# Altium integrated library Linear Technology PMIC-Switching Reg LTC1174-LTC3901.IntLib: 2647 symbols (part 93 of 310)
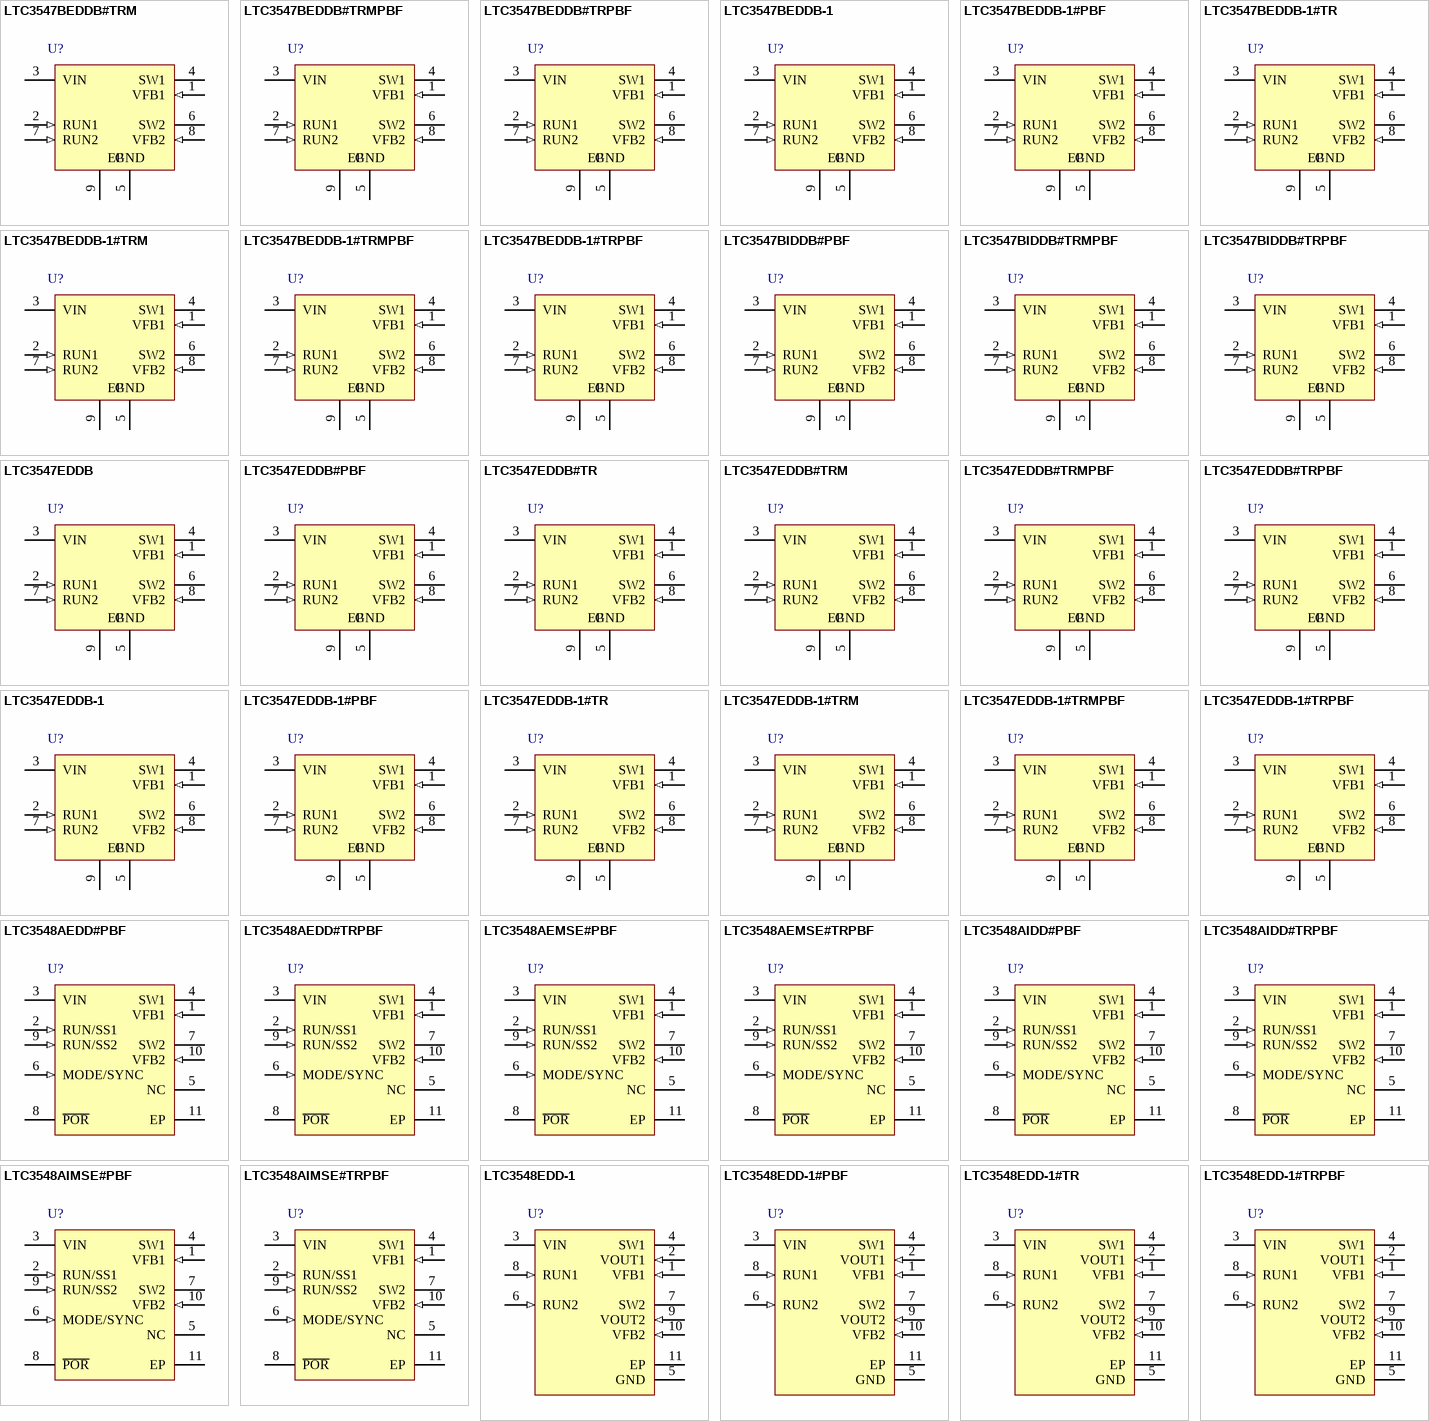
[diagram p168: symbols LTC3547BEDDB#TRM to LTC3548EDD-1#TRPBF]

## LTC3548AEMSE#PBF
designator U?
Dual Synchronous 400 mA / 800 mA, 2.25 MHz Step-Down DC/DC Regulator, 10-pin SOP (MSE-10-EDP), -40 to 125 degC, Pb-Free; Manufacturer: Linear Technology; PartNumber: LTC3548AEMSE#PBF; Number of Outputs: 2; PackageReference: MSE-10; PackageDescription: 10-Pin Plastic MSOP, Exposed Die Pad, Body 3 x 3 mm, Pitch 0.5 mm; Supplier 1: Digi-Key; Supplier Part Number 1: LTC3548AEMSE#PBF-ND; RoHS: TRUE
footprint LT-MSE-10-EDP-2060x1830TP_N (SOP, 10-Leads, Body 3.1x3.1mm, Pitch 0.5mm, Thermal Pad 2.17x1.94mm, IPC Medium Density)
footprint LT-MSE-10-EDP-2060x1830TP_L (SOP, 10-Leads, Body 3.1x3.1mm, Pitch 0.5mm, Thermal Pad 2.17x1.94mm, IPC High Density)
footprint LT-MSE-10-EDP-2060x1830TP_M (SOP, 10-Leads, Body 3.1x3.1mm, Pitch 0.5mm, Thermal Pad 2.17x1.94mm, IPC Low Density)
pins: 1 VFB1 (in) "Output Feedback. Receives the feedback voltage from the external resistive divider across the output. Nominal voltage for this pin is 0.6V.", 2 RUN/SS1 (in) "Regulator 1 Enable and Soft-Start Input. Forcing this pin to VIN enables regulator 1, while forcing it to GND causes regulator 1 to shut down. Connect external RC network with desired time-constant to enable soft-start (See Datasheet)", 3 VIN (power) "Main Power Supply. Must be closely decoupled to GND.", 4 SW1 (power) "Regulator 1 Switch Node Connection to the Inductor. This pin swings from VIN to GND", 5 NC "No Connect. This pin is not connected internally. Connect to ground on PCB for shielding purposes", 6 MODE/SYNC (in) "Combination Mode Selection and Oscillator Synchronization. This pin controls the operation of the device. When tied to VIN or GND, Burst Mode operation or pulse-skipping mode is selected, respectively. Do not float this pin. (See Datasheet)", 7 SW2 (power) "Regulator 2 Switch Node Connection to the Inductor. This pin swings from VIN to GND.", 8 ~{POR} (oc) "Power-On Reset. This common-drain logic output is pulled to GND when the output voltage is not within +/-8.5% of regulation and goes high after 2^16 clock cycles when both channels are within regulation.", 9 RUN/SS2 (in) "Regulator 2 Enable and Soft-Start Input. Forcing this pin to VIN enables regulator 2, while forcing it to GND causes regulator 2 to shut down. Connect external RC network with desired time-constant to enable soft-start (See Datasheet)", 10 VFB2 (in) "Output Feedback. Receives the feedback voltage from the external resistive divider across the output. Nominal voltage for this pin is 0.6V.", 11 EP (power) "Power Ground. Connect to the (-) terminal of COUT, and (-) terminal of CIN. Must be soldered to electrical ground on PCB."

## LTC3548AEMSE#TRPBF
designator U?
Dual Synchronous 400 mA / 800 mA, 2.25 MHz Step-Down DC/DC Regulator, 10-pin SOP (MSE-10-EDP), -40 to 125 degC, Pb-Free, Tape and Reel; Manufacturer: Linear Technology; PartNumber: LTC3548AEMSE#TRPBF; Number of Outputs: 2; PackageReference: MSE-10; PackageDescription: 10-Pin Plastic MSOP, Exposed Die Pad, Body 3 x 3 mm, Pitch 0.5 mm; Supplier 1: Digi-Key; Supplier Part Number 1: LTC3548AEMSE#TRPBF-ND; RoHS: TRUE
footprint LT-MSE-10-EDP-2060x1830TP_N (SOP, 10-Leads, Body 3.1x3.1mm, Pitch 0.5mm, Thermal Pad 2.17x1.94mm, IPC Medium Density)
footprint LT-MSE-10-EDP-2060x1830TP_L (SOP, 10-Leads, Body 3.1x3.1mm, Pitch 0.5mm, Thermal Pad 2.17x1.94mm, IPC High Density)
footprint LT-MSE-10-EDP-2060x1830TP_M (SOP, 10-Leads, Body 3.1x3.1mm, Pitch 0.5mm, Thermal Pad 2.17x1.94mm, IPC Low Density)
pins: 1 VFB1 (in) "Output Feedback. Receives the feedback voltage from the external resistive divider across the output. Nominal voltage for this pin is 0.6V.", 2 RUN/SS1 (in) "Regulator 1 Enable and Soft-Start Input. Forcing this pin to VIN enables regulator 1, while forcing it to GND causes regulator 1 to shut down. Connect external RC network with desired time-constant to enable soft-start (See Datasheet)", 3 VIN (power) "Main Power Supply. Must be closely decoupled to GND.", 4 SW1 (power) "Regulator 1 Switch Node Connection to the Inductor. This pin swings from VIN to GND", 5 NC "No Connect. This pin is not connected internally. Connect to ground on PCB for shielding purposes", 6 MODE/SYNC (in) "Combination Mode Selection and Oscillator Synchronization. This pin controls the operation of the device. When tied to VIN or GND, Burst Mode operation or pulse-skipping mode is selected, respectively. Do not float this pin. (See Datasheet)", 7 SW2 (power) "Regulator 2 Switch Node Connection to the Inductor. This pin swings from VIN to GND.", 8 ~{POR} (oc) "Power-On Reset. This common-drain logic output is pulled to GND when the output voltage is not within +/-8.5% of regulation and goes high after 2^16 clock cycles when both channels are within regulation.", 9 RUN/SS2 (in) "Regulator 2 Enable and Soft-Start Input. Forcing this pin to VIN enables regulator 2, while forcing it to GND causes regulator 2 to shut down. Connect external RC network with desired time-constant to enable soft-start (See Datasheet)", 10 VFB2 (in) "Output Feedback. Receives the feedback voltage from the external resistive divider across the output. Nominal voltage for this pin is 0.6V.", 11 EP (power) "Power Ground. Connect to the (-) terminal of COUT, and (-) terminal of CIN. Must be soldered to electrical ground on PCB."

## LTC3548AIDD#PBF
designator U?
Dual Synchronous 400 mA / 800 mA, 2.25 MHz Step-Down DC/DC Regulator, 10-pin SON (DD-10), -40 to 125 degC, Pb-Free; Manufacturer: Linear Technology; PartNumber: LTC3548AIDD#PBF; Number of Outputs: 2; PackageReference: DD-10; PackageDescription: 10-Pin Plastic DFN, Body 3 x 3 mm, Pitch 0.5 mm; Supplier 1: Digi-Key; Supplier Part Number 1: LTC3548AIDD#PBF-ND; RoHS: TRUE; Code_JEDEC: MO-229
footprint LT-DD-10_V (SON, 10-Leads, Body 3x3mm, Pitch 0.5mm, Thermal Pad 2.38x1.65mm)
pins: 1 VFB1 (in) "Output Feedback. Receives the feedback voltage from the external resistive divider across the output. Nominal voltage for this pin is 0.6V.", 2 RUN/SS1 (in) "Regulator 1 Enable and Soft-Start Input. Forcing this pin to VIN enables regulator 1, while forcing it to GND causes regulator 1 to shut down. Connect external RC network with desired time-constant to enable soft-start (See Datasheet)", 3 VIN (power) "Main Power Supply. Must be closely decoupled to GND.", 4 SW1 (power) "Regulator 1 Switch Node Connection to the Inductor. This pin swings from VIN to GND", 5 NC "No Connect. This pin is not connected internally. Connect to ground on PCB for shielding purposes", 6 MODE/SYNC (in) "Combination Mode Selection and Oscillator Synchronization. This pin controls the operation of the device. When tied to VIN or GND, Burst Mode operation or pulse-skipping mode is selected, respectively. Do not float this pin. (See Datasheet)", 7 SW2 (power) "Regulator 2 Switch Node Connection to the Inductor. This pin swings from VIN to GND.", 8 ~{POR} (oc) "Power-On Reset. This common-drain logic output is pulled to GND when the output voltage is not within +/-8.5% of regulation and goes high after 2^16 clock cycles when both channels are within regulation.", 9 RUN/SS2 (in) "Regulator 2 Enable and Soft-Start Input. Forcing this pin to VIN enables regulator 2, while forcing it to GND causes regulator 2 to shut down. Connect external RC network with desired time-constant to enable soft-start (See Datasheet)", 10 VFB2 (in) "Output Feedback. Receives the feedback voltage from the external resistive divider across the output. Nominal voltage for this pin is 0.6V.", 11 EP (power) "Power Ground. Connect to the (-) terminal of COUT, and (-) terminal of CIN. Must be soldered to electrical ground on PCB."

## LTC3548AIDD#TRPBF
designator U?
Dual Synchronous 400 mA / 800 mA, 2.25 MHz Step-Down DC/DC Regulator, 10-pin SON (DD-10), -40 to 125 degC, Pb-Free, Tape and Reel; Manufacturer: Linear Technology; PartNumber: LTC3548AIDD#TRPBF; Number of Outputs: 2; PackageReference: DD-10; PackageDescription: 10-Pin Plastic DFN, Body 3 x 3 mm, Pitch 0.5 mm; Supplier 1: Digi-Key; Supplier Part Number 1: LTC3548AIDD#TRPBF-ND; RoHS: TRUE; Code_JEDEC: MO-229
footprint LT-DD-10_V (SON, 10-Leads, Body 3x3mm, Pitch 0.5mm, Thermal Pad 2.38x1.65mm)
pins: 1 VFB1 (in) "Output Feedback. Receives the feedback voltage from the external resistive divider across the output. Nominal voltage for this pin is 0.6V.", 2 RUN/SS1 (in) "Regulator 1 Enable and Soft-Start Input. Forcing this pin to VIN enables regulator 1, while forcing it to GND causes regulator 1 to shut down. Connect external RC network with desired time-constant to enable soft-start (See Datasheet)", 3 VIN (power) "Main Power Supply. Must be closely decoupled to GND.", 4 SW1 (power) "Regulator 1 Switch Node Connection to the Inductor. This pin swings from VIN to GND", 5 NC "No Connect. This pin is not connected internally. Connect to ground on PCB for shielding purposes", 6 MODE/SYNC (in) "Combination Mode Selection and Oscillator Synchronization. This pin controls the operation of the device. When tied to VIN or GND, Burst Mode operation or pulse-skipping mode is selected, respectively. Do not float this pin. (See Datasheet)", 7 SW2 (power) "Regulator 2 Switch Node Connection to the Inductor. This pin swings from VIN to GND.", 8 ~{POR} (oc) "Power-On Reset. This common-drain logic output is pulled to GND when the output voltage is not within +/-8.5% of regulation and goes high after 2^16 clock cycles when both channels are within regulation.", 9 RUN/SS2 (in) "Regulator 2 Enable and Soft-Start Input. Forcing this pin to VIN enables regulator 2, while forcing it to GND causes regulator 2 to shut down. Connect external RC network with desired time-constant to enable soft-start (See Datasheet)", 10 VFB2 (in) "Output Feedback. Receives the feedback voltage from the external resistive divider across the output. Nominal voltage for this pin is 0.6V.", 11 EP (power) "Power Ground. Connect to the (-) terminal of COUT, and (-) terminal of CIN. Must be soldered to electrical ground on PCB."

## LTC3548AIMSE#PBF
designator U?
Dual Synchronous 400 mA / 800 mA, 2.25 MHz Step-Down DC/DC Regulator, 10-pin SOP (MSE-10-EDP), -40 to 125 degC, Pb-Free; Manufacturer: Linear Technology; PartNumber: LTC3548AIMSE#PBF; Number of Outputs: 2; PackageReference: MSE-10; PackageDescription: 10-Pin Plastic MSOP, Exposed Die Pad, Body 3 x 3 mm, Pitch 0.5 mm; Supplier 1: Digi-Key; Supplier Part Number 1: LTC3548AIMSE#PBF-ND; RoHS: TRUE
footprint LT-MSE-10-EDP-2060x1830TP_N (SOP, 10-Leads, Body 3.1x3.1mm, Pitch 0.5mm, Thermal Pad 2.17x1.94mm, IPC Medium Density)
footprint LT-MSE-10-EDP-2060x1830TP_L (SOP, 10-Leads, Body 3.1x3.1mm, Pitch 0.5mm, Thermal Pad 2.17x1.94mm, IPC High Density)
footprint LT-MSE-10-EDP-2060x1830TP_M (SOP, 10-Leads, Body 3.1x3.1mm, Pitch 0.5mm, Thermal Pad 2.17x1.94mm, IPC Low Density)
pins: 1 VFB1 (in) "Output Feedback. Receives the feedback voltage from the external resistive divider across the output. Nominal voltage for this pin is 0.6V.", 2 RUN/SS1 (in) "Regulator 1 Enable and Soft-Start Input. Forcing this pin to VIN enables regulator 1, while forcing it to GND causes regulator 1 to shut down. Connect external RC network with desired time-constant to enable soft-start (See Datasheet)", 3 VIN (power) "Main Power Supply. Must be closely decoupled to GND.", 4 SW1 (power) "Regulator 1 Switch Node Connection to the Inductor. This pin swings from VIN to GND", 5 NC "No Connect. This pin is not connected internally. Connect to ground on PCB for shielding purposes", 6 MODE/SYNC (in) "Combination Mode Selection and Oscillator Synchronization. This pin controls the operation of the device. When tied to VIN or GND, Burst Mode operation or pulse-skipping mode is selected, respectively. Do not float this pin. (See Datasheet)", 7 SW2 (power) "Regulator 2 Switch Node Connection to the Inductor. This pin swings from VIN to GND.", 8 ~{POR} (oc) "Power-On Reset. This common-drain logic output is pulled to GND when the output voltage is not within +/-8.5% of regulation and goes high after 2^16 clock cycles when both channels are within regulation.", 9 RUN/SS2 (in) "Regulator 2 Enable and Soft-Start Input. Forcing this pin to VIN enables regulator 2, while forcing it to GND causes regulator 2 to shut down. Connect external RC network with desired time-constant to enable soft-start (See Datasheet)", 10 VFB2 (in) "Output Feedback. Receives the feedback voltage from the external resistive divider across the output. Nominal voltage for this pin is 0.6V.", 11 EP (power) "Power Ground. Connect to the (-) terminal of COUT, and (-) terminal of CIN. Must be soldered to electrical ground on PCB."

## LTC3548AIMSE#TRPBF
designator U?
Dual Synchronous 400 mA / 800 mA, 2.25 MHz Step-Down DC/DC Regulator, 10-pin SOP (MSE-10-EDP), -40 to 125 degC, Pb-Free, Tape and Reel; Manufacturer: Linear Technology; PartNumber: LTC3548AIMSE#TRPBF; Number of Outputs: 2; PackageReference: MSE-10; PackageDescription: 10-Pin Plastic MSOP, Exposed Die Pad, Body 3 x 3 mm, Pitch 0.5 mm; Supplier 1: Digi-Key; Supplier Part Number 1: LTC3548AIMSE#TRPBF-ND; RoHS: TRUE
footprint LT-MSE-10-EDP-2060x1830TP_N (SOP, 10-Leads, Body 3.1x3.1mm, Pitch 0.5mm, Thermal Pad 2.17x1.94mm, IPC Medium Density)
footprint LT-MSE-10-EDP-2060x1830TP_L (SOP, 10-Leads, Body 3.1x3.1mm, Pitch 0.5mm, Thermal Pad 2.17x1.94mm, IPC High Density)
footprint LT-MSE-10-EDP-2060x1830TP_M (SOP, 10-Leads, Body 3.1x3.1mm, Pitch 0.5mm, Thermal Pad 2.17x1.94mm, IPC Low Density)
pins: 1 VFB1 (in) "Output Feedback. Receives the feedback voltage from the external resistive divider across the output. Nominal voltage for this pin is 0.6V.", 2 RUN/SS1 (in) "Regulator 1 Enable and Soft-Start Input. Forcing this pin to VIN enables regulator 1, while forcing it to GND causes regulator 1 to shut down. Connect external RC network with desired time-constant to enable soft-start (See Datasheet)", 3 VIN (power) "Main Power Supply. Must be closely decoupled to GND.", 4 SW1 (power) "Regulator 1 Switch Node Connection to the Inductor. This pin swings from VIN to GND", 5 NC "No Connect. This pin is not connected internally. Connect to ground on PCB for shielding purposes", 6 MODE/SYNC (in) "Combination Mode Selection and Oscillator Synchronization. This pin controls the operation of the device. When tied to VIN or GND, Burst Mode operation or pulse-skipping mode is selected, respectively. Do not float this pin. (See Datasheet)", 7 SW2 (power) "Regulator 2 Switch Node Connection to the Inductor. This pin swings from VIN to GND.", 8 ~{POR} (oc) "Power-On Reset. This common-drain logic output is pulled to GND when the output voltage is not within +/-8.5% of regulation and goes high after 2^16 clock cycles when both channels are within regulation.", 9 RUN/SS2 (in) "Regulator 2 Enable and Soft-Start Input. Forcing this pin to VIN enables regulator 2, while forcing it to GND causes regulator 2 to shut down. Connect external RC network with desired time-constant to enable soft-start (See Datasheet)", 10 VFB2 (in) "Output Feedback. Receives the feedback voltage from the external resistive divider across the output. Nominal voltage for this pin is 0.6V.", 11 EP (power) "Power Ground. Connect to the (-) terminal of COUT, and (-) terminal of CIN. Must be soldered to electrical ground on PCB."

## LTC3548EDD-1
designator U?
Dual Synchronous, Fixed Output 2.25 MHz Step-Down DC/DC Regulator, 10-pin SON (DD-10), -40 to 125 degC; Manufacturer: Linear Technology; PartNumber: LTC3548EDD-1; Number of Outputs: 2; PackageReference: DD-10; PackageDescription: 10-Pin Plastic DFN, Body 3 x 3 mm, Pitch 0.5 mm; RoHS: FALSE; Code_JEDEC: MO-229
footprint LT-DD-10_V (SON, 10-Leads, Body 3x3mm, Pitch 0.5mm, Thermal Pad 2.38x1.65mm)
pins: 1 VFB1 (in) "Output Feedback for Channel 1. Receives the feedback voltage from internal resistive divider across the output. Normal voltage for this pin is 0.6V", 2 VOUT1 (in) "Output Voltage Feedback for Channel 1. An internal resistive divider divides the output voltage down for comparison to the internal reference voltage.", 3 VIN (power) "Input Power Supply. Must be closely decoupled to GND.", 4 SW1 (power) "Regulator 1 Switch Node Connection to the Inductor. This pin swings from VIN to GND.", 5 GND (power) "Ground. This pin is not connected internally. Connect to PCB ground for optimum shielding.", 6 RUN2 (in) "Regulator 2 Enable. Forcing this pin to VIN enables regulator 2, while forcing it to GND causes regulator 2 to shut down. This pin must be driven; do not float.", 7 SW2 (power) "Regulator 2 Switch Node Connection to the Inductor. This pin swings from VIN to GND.", 8 RUN1 (in) "Regulator 1 Enable. Forcing this pin to VIN enables regulator 1, while forcing it to GND causes regulator 1 to shut down. This pin must be driven; do not float.", 9 VOUT2 (in) "Output Voltage Feedback Pin for Channel 2. An internal resistive divider divides the output voltage down for comparison to the internal reference voltage.", 10 VFB2 (in) "Output Feedback. Receives the feedback voltage from the external resistive divider across the output. Normal voltage for this pin is 0.6V.", 11 EP (power) "Ground. Connect to the (-) terminal of COUT, and (-) terminal of CIN. Must be connected to PCB ground for electrical contact and rated thermal performance."

## LTC3548EDD-1#PBF
designator U?
Dual Synchronous, Fixed Output 2.25 MHz Step-Down DC/DC Regulator, 10-pin SON (DD-10), -40 to 125 degC, Pb-Free; Manufacturer: Linear Technology; PartNumber: LTC3548EDD-1#PBF; Number of Outputs: 2; PackageReference: DD-10; PackageDescription: 10-Pin Plastic DFN, Body 3 x 3 mm, Pitch 0.5 mm; Supplier 1: Digi-Key; Supplier Part Number 1: LTC3548EDD-1#PBF-ND; RoHS: TRUE; Code_JEDEC: MO-229
footprint LT-DD-10_V (SON, 10-Leads, Body 3x3mm, Pitch 0.5mm, Thermal Pad 2.38x1.65mm)
pins: 1 VFB1 (in) "Output Feedback for Channel 1. Receives the feedback voltage from internal resistive divider across the output. Normal voltage for this pin is 0.6V", 2 VOUT1 (in) "Output Voltage Feedback for Channel 1. An internal resistive divider divides the output voltage down for comparison to the internal reference voltage.", 3 VIN (power) "Input Power Supply. Must be closely decoupled to GND.", 4 SW1 (power) "Regulator 1 Switch Node Connection to the Inductor. This pin swings from VIN to GND.", 5 GND (power) "Ground. This pin is not connected internally. Connect to PCB ground for optimum shielding.", 6 RUN2 (in) "Regulator 2 Enable. Forcing this pin to VIN enables regulator 2, while forcing it to GND causes regulator 2 to shut down. This pin must be driven; do not float.", 7 SW2 (power) "Regulator 2 Switch Node Connection to the Inductor. This pin swings from VIN to GND.", 8 RUN1 (in) "Regulator 1 Enable. Forcing this pin to VIN enables regulator 1, while forcing it to GND causes regulator 1 to shut down. This pin must be driven; do not float.", 9 VOUT2 (in) "Output Voltage Feedback Pin for Channel 2. An internal resistive divider divides the output voltage down for comparison to the internal reference voltage.", 10 VFB2 (in) "Output Feedback. Receives the feedback voltage from the external resistive divider across the output. Normal voltage for this pin is 0.6V.", 11 EP (power) "Ground. Connect to the (-) terminal of COUT, and (-) terminal of CIN. Must be connected to PCB ground for electrical contact and rated thermal performance."

## LTC3548EDD-1#TR
designator U?
Dual Synchronous, Fixed Output 2.25 MHz Step-Down DC/DC Regulator, 10-pin SON (DD-10), -40 to 125 degC, Tape and Reel; Manufacturer: Linear Technology; PartNumber: LTC3548EDD-1#TR; Number of Outputs: 2; PackageReference: DD-10; PackageDescription: 10-Pin Plastic DFN, Body 3 x 3 mm, Pitch 0.5 mm; RoHS: FALSE; Code_JEDEC: MO-229
footprint LT-DD-10_V (SON, 10-Leads, Body 3x3mm, Pitch 0.5mm, Thermal Pad 2.38x1.65mm)
pins: 1 VFB1 (in) "Output Feedback for Channel 1. Receives the feedback voltage from internal resistive divider across the output. Normal voltage for this pin is 0.6V", 2 VOUT1 (in) "Output Voltage Feedback for Channel 1. An internal resistive divider divides the output voltage down for comparison to the internal reference voltage.", 3 VIN (power) "Input Power Supply. Must be closely decoupled to GND.", 4 SW1 (power) "Regulator 1 Switch Node Connection to the Inductor. This pin swings from VIN to GND.", 5 GND (power) "Ground. This pin is not connected internally. Connect to PCB ground for optimum shielding.", 6 RUN2 (in) "Regulator 2 Enable. Forcing this pin to VIN enables regulator 2, while forcing it to GND causes regulator 2 to shut down. This pin must be driven; do not float.", 7 SW2 (power) "Regulator 2 Switch Node Connection to the Inductor. This pin swings from VIN to GND.", 8 RUN1 (in) "Regulator 1 Enable. Forcing this pin to VIN enables regulator 1, while forcing it to GND causes regulator 1 to shut down. This pin must be driven; do not float.", 9 VOUT2 (in) "Output Voltage Feedback Pin for Channel 2. An internal resistive divider divides the output voltage down for comparison to the internal reference voltage.", 10 VFB2 (in) "Output Feedback. Receives the feedback voltage from the external resistive divider across the output. Normal voltage for this pin is 0.6V.", 11 EP (power) "Ground. Connect to the (-) terminal of COUT, and (-) terminal of CIN. Must be connected to PCB ground for electrical contact and rated thermal performance."

## LTC3548EDD-1#TRPBF
designator U?
Dual Synchronous, Fixed Output 2.25 MHz Step-Down DC/DC Regulator, 10-pin SON (DD-10), -40 to 125 degC, Pb-Free, Tape and Reel; Manufacturer: Linear Technology; PartNumber: LTC3548EDD-1#TRPBF; Number of Outputs: 2; PackageReference: DD-10; PackageDescription: 10-Pin Plastic DFN, Body 3 x 3 mm, Pitch 0.5 mm; Supplier 1: Digi-Key; Supplier Part Number 1: LTC3548EDD-1#TRPBF-ND; RoHS: TRUE; Code_JEDEC: MO-229
footprint LT-DD-10_V (SON, 10-Leads, Body 3x3mm, Pitch 0.5mm, Thermal Pad 2.38x1.65mm)
pins: 1 VFB1 (in) "Output Feedback for Channel 1. Receives the feedback voltage from internal resistive divider across the output. Normal voltage for this pin is 0.6V", 2 VOUT1 (in) "Output Voltage Feedback for Channel 1. An internal resistive divider divides the output voltage down for comparison to the internal reference voltage.", 3 VIN (power) "Input Power Supply. Must be closely decoupled to GND.", 4 SW1 (power) "Regulator 1 Switch Node Connection to the Inductor. This pin swings from VIN to GND.", 5 GND (power) "Ground. This pin is not connected internally. Connect to PCB ground for optimum shielding.", 6 RUN2 (in) "Regulator 2 Enable. Forcing this pin to VIN enables regulator 2, while forcing it to GND causes regulator 2 to shut down. This pin must be driven; do not float.", 7 SW2 (power) "Regulator 2 Switch Node Connection to the Inductor. This pin swings from VIN to GND.", 8 RUN1 (in) "Regulator 1 Enable. Forcing this pin to VIN enables regulator 1, while forcing it to GND causes regulator 1 to shut down. This pin must be driven; do not float.", 9 VOUT2 (in) "Output Voltage Feedback Pin for Channel 2. An internal resistive divider divides the output voltage down for comparison to the internal reference voltage.", 10 VFB2 (in) "Output Feedback. Receives the feedback voltage from the external resistive divider across the output. Normal voltage for this pin is 0.6V.", 11 EP (power) "Ground. Connect to the (-) terminal of COUT, and (-) terminal of CIN. Must be connected to PCB ground for electrical contact and rated thermal performance."

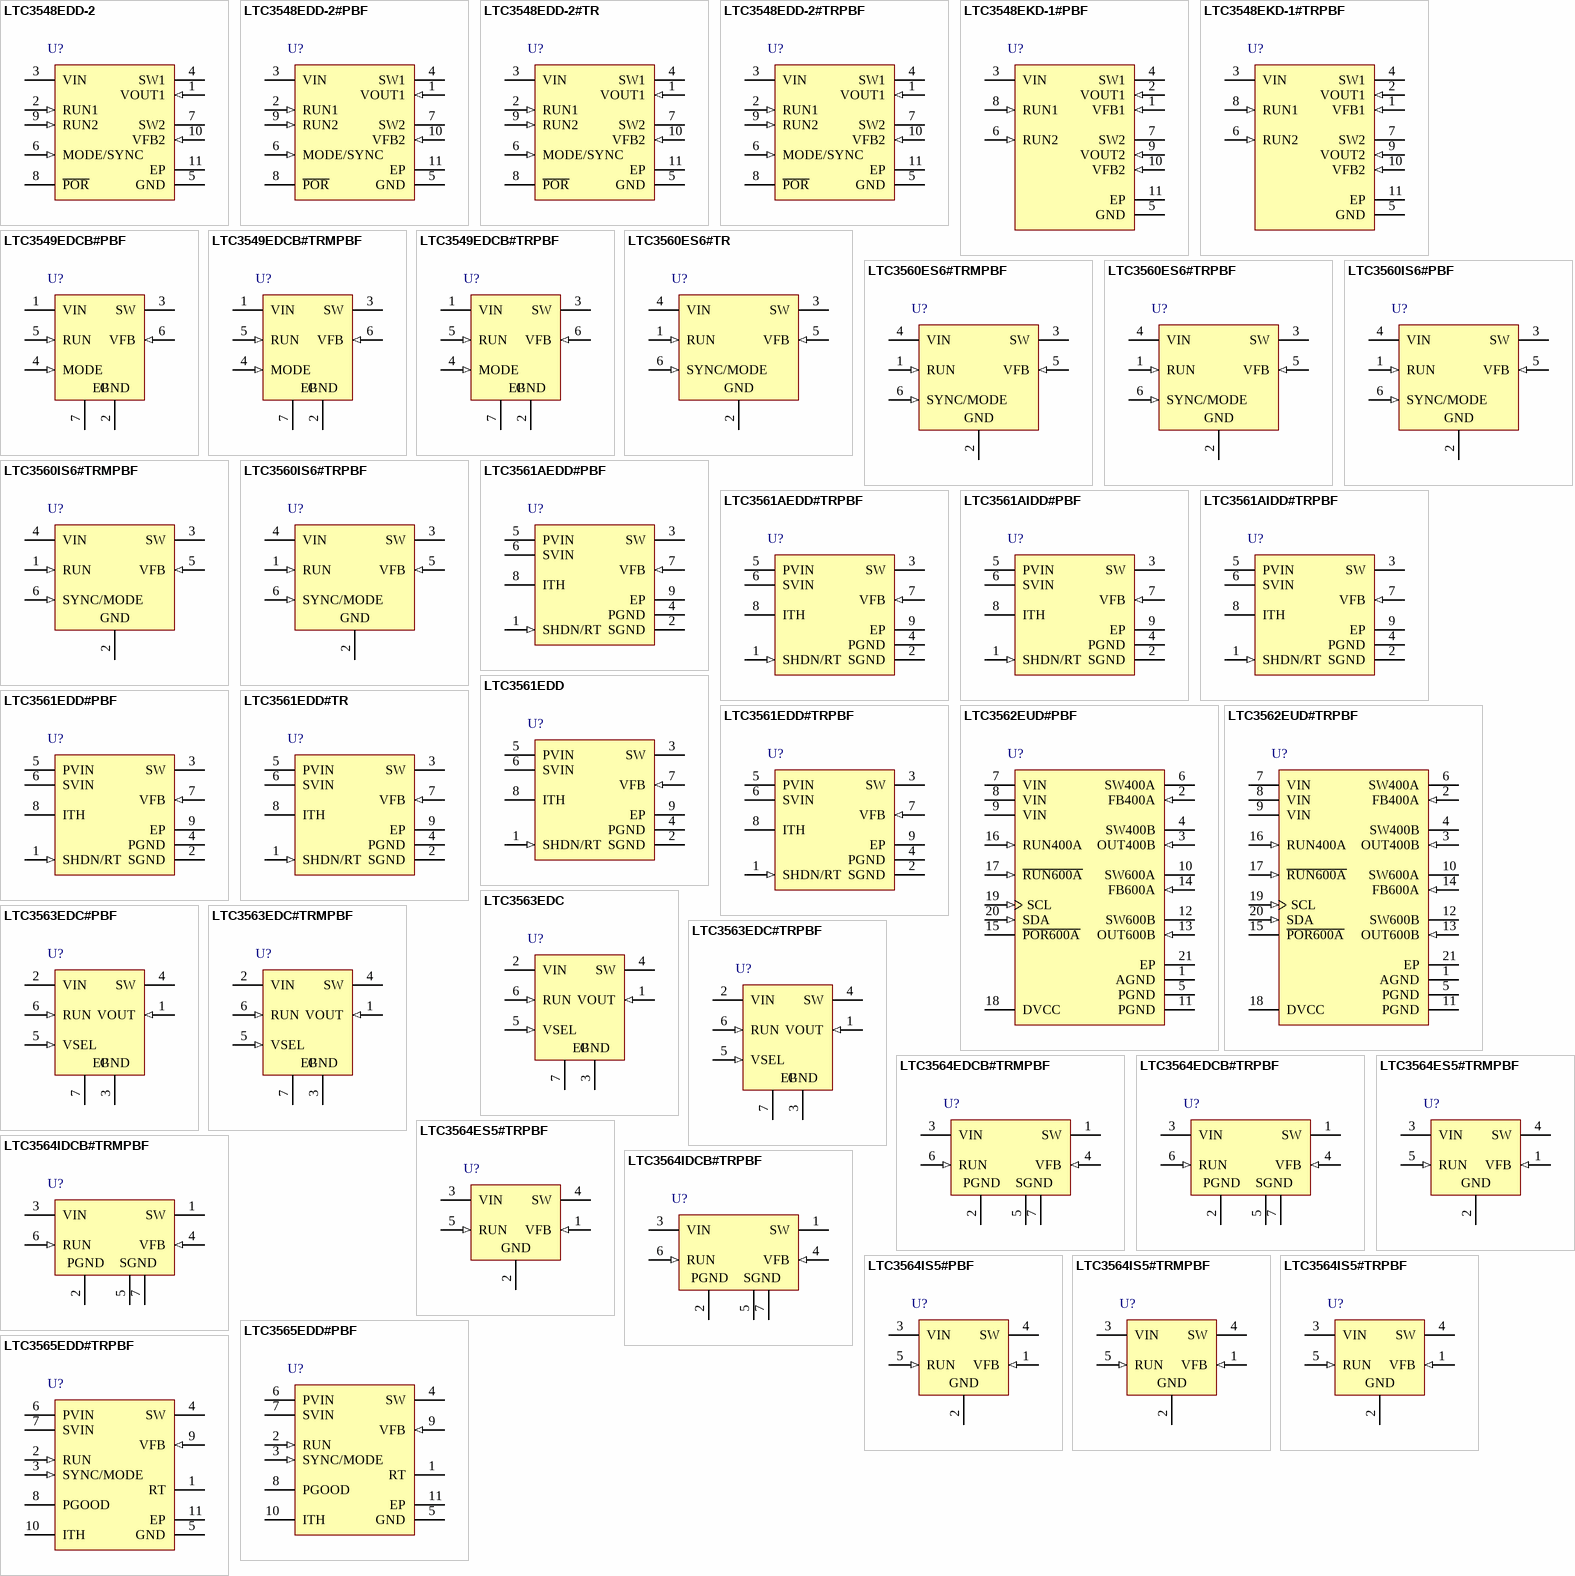
[diagram p34: symbols LTC3548EDD-2 to LTC3565EDD#TRPBF]

## LTC3548EDD-2
designator U?
Dual Synchronous, Fixed / Adjustable Output, 2.25 MHz Step-Down DC/DC Regulator, 10-pin SON (DD-10), -40 to 125 degC; Manufacturer: Linear Technology; PartNumber: LTC3548EDD-2; Number of Outputs: 2; PackageReference: DD-10; PackageDescription: 10-Pin Plastic DFN, Body 3 x 3 mm, Pitch 0.5 mm; RoHS: FALSE; Code_JEDEC: MO-229
footprint LT-DD-10_V (SON, 10-Leads, Body 3x3mm, Pitch 0.5mm, Thermal Pad 2.38x1.65mm)
pins: 1 VOUT1 (in) "Output Voltage Feedback for Channel 1. An internal resistive divider divides the output voltage down for comparison to the internal reference voltage.", 2 RUN1 (in) "Regulator 1 Enable. Forcing this pin to VIN enables regulator 1, while forcing it to GND causes regulator 1 to shut down. This pin must be driven; do not float.", 3 VIN (power) "Input Power Supply. Must be closely decoupled to GND.", 4 SW1 (power) "Regulator 1 Switch Node Connection to the Inductor. This pin swings from VIN to GND.", 5 GND (power) "Ground. This pin is not connected internally. Connect to PCB ground for optimum shielding.", 6 MODE/SYNC (in) "Combination Mode Selection and Oscillator Synchronization. This pin controls the operation of the device. When tied to VIN or GND, Burst Mode operation or pulse-skipping mode is selected, respectively. Do not float this pin. (See Datasheet)", 7 SW2 (power) "Regulator 2 Switch Node Connection to the Inductor. This pin swings from VIN to GND.", 8 ~{POR} (oc) "Power-On Reset. This common-drain logic output is pulled to GND when the output voltage falls below -8.5% of regulation and goes high after 117ms when both channels are within regulation.", 9 RUN2 (in) "Regulator 2 Enable. Forcing this pin to VIN enables regulator 2, while forcing it to GND causes regulator 2 to shut down. This pin must be driven; do not float.", 10 VFB2 (in) "Output Feedback. Receives the feedback voltage from the external resistive divider across the output. Normal voltage for this pin is 0.6V.", 11 EP (power) "Ground. Connect to the (-) terminal of COUT, and (-) terminal of CIN. Must be connected to PCB ground for electrical contact and rated thermal performance."

## LTC3548EDD-2#PBF
designator U?
Dual Synchronous, Fixed / Adjustable Output, 2.25 MHz Step-Down DC/DC Regulator, 10-pin SON (DD-10), -40 to 125 degC, Pb-Free; Manufacturer: Linear Technology; PartNumber: LTC3548EDD-2#PBF; Number of Outputs: 2; PackageReference: DD-10; PackageDescription: 10-Pin Plastic DFN, Body 3 x 3 mm, Pitch 0.5 mm; Supplier 1: Digi-Key; Supplier Part Number 1: LTC3548EDD-2#PBF-ND; RoHS: TRUE; Code_JEDEC: MO-229
footprint LT-DD-10_V (SON, 10-Leads, Body 3x3mm, Pitch 0.5mm, Thermal Pad 2.38x1.65mm)
pins: 1 VOUT1 (in) "Output Voltage Feedback for Channel 1. An internal resistive divider divides the output voltage down for comparison to the internal reference voltage.", 2 RUN1 (in) "Regulator 1 Enable. Forcing this pin to VIN enables regulator 1, while forcing it to GND causes regulator 1 to shut down. This pin must be driven; do not float.", 3 VIN (power) "Input Power Supply. Must be closely decoupled to GND.", 4 SW1 (power) "Regulator 1 Switch Node Connection to the Inductor. This pin swings from VIN to GND.", 5 GND (power) "Ground. This pin is not connected internally. Connect to PCB ground for optimum shielding.", 6 MODE/SYNC (in) "Combination Mode Selection and Oscillator Synchronization. This pin controls the operation of the device. When tied to VIN or GND, Burst Mode operation or pulse-skipping mode is selected, respectively. Do not float this pin. (See Datasheet)", 7 SW2 (power) "Regulator 2 Switch Node Connection to the Inductor. This pin swings from VIN to GND.", 8 ~{POR} (oc) "Power-On Reset. This common-drain logic output is pulled to GND when the output voltage falls below -8.5% of regulation and goes high after 117ms when both channels are within regulation.", 9 RUN2 (in) "Regulator 2 Enable. Forcing this pin to VIN enables regulator 2, while forcing it to GND causes regulator 2 to shut down. This pin must be driven; do not float.", 10 VFB2 (in) "Output Feedback. Receives the feedback voltage from the external resistive divider across the output. Normal voltage for this pin is 0.6V.", 11 EP (power) "Ground. Connect to the (-) terminal of COUT, and (-) terminal of CIN. Must be connected to PCB ground for electrical contact and rated thermal performance."

## LTC3548EDD-2#TR
designator U?
Dual Synchronous, Fixed / Adjustable Output, 2.25 MHz Step-Down DC/DC Regulator, 10-pin SON (DD-10), -40 to 125 degC, Tape and Reel; Manufacturer: Linear Technology; PartNumber: LTC3548EDD-2#TR; Number of Outputs: 2; PackageReference: DD-10; PackageDescription: 10-Pin Plastic DFN, Body 3 x 3 mm, Pitch 0.5 mm; RoHS: FALSE; Code_JEDEC: MO-229
footprint LT-DD-10_V (SON, 10-Leads, Body 3x3mm, Pitch 0.5mm, Thermal Pad 2.38x1.65mm)
pins: 1 VOUT1 (in) "Output Voltage Feedback for Channel 1. An internal resistive divider divides the output voltage down for comparison to the internal reference voltage.", 2 RUN1 (in) "Regulator 1 Enable. Forcing this pin to VIN enables regulator 1, while forcing it to GND causes regulator 1 to shut down. This pin must be driven; do not float.", 3 VIN (power) "Input Power Supply. Must be closely decoupled to GND.", 4 SW1 (power) "Regulator 1 Switch Node Connection to the Inductor. This pin swings from VIN to GND.", 5 GND (power) "Ground. This pin is not connected internally. Connect to PCB ground for optimum shielding.", 6 MODE/SYNC (in) "Combination Mode Selection and Oscillator Synchronization. This pin controls the operation of the device. When tied to VIN or GND, Burst Mode operation or pulse-skipping mode is selected, respectively. Do not float this pin. (See Datasheet)", 7 SW2 (power) "Regulator 2 Switch Node Connection to the Inductor. This pin swings from VIN to GND.", 8 ~{POR} (oc) "Power-On Reset. This common-drain logic output is pulled to GND when the output voltage falls below -8.5% of regulation and goes high after 117ms when both channels are within regulation.", 9 RUN2 (in) "Regulator 2 Enable. Forcing this pin to VIN enables regulator 2, while forcing it to GND causes regulator 2 to shut down. This pin must be driven; do not float.", 10 VFB2 (in) "Output Feedback. Receives the feedback voltage from the external resistive divider across the output. Normal voltage for this pin is 0.6V.", 11 EP (power) "Ground. Connect to the (-) terminal of COUT, and (-) terminal of CIN. Must be connected to PCB ground for electrical contact and rated thermal performance."

## LTC3548EDD-2#TRPBF
designator U?
Dual Synchronous, Fixed / Adjustable Output, 2.25 MHz Step-Down DC/DC Regulator, 10-pin SON (DD-10), -40 to 125 degC, Pb-Free, Tape and Reel; Manufacturer: Linear Technology; PartNumber: LTC3548EDD-2#TRPBF; Number of Outputs: 2; PackageReference: DD-10; PackageDescription: 10-Pin Plastic DFN, Body 3 x 3 mm, Pitch 0.5 mm; Supplier 1: Digi-Key; Supplier Part Number 1: LTC3548EDD-2#TRPBF-ND; RoHS: TRUE; Code_JEDEC: MO-229
footprint LT-DD-10_V (SON, 10-Leads, Body 3x3mm, Pitch 0.5mm, Thermal Pad 2.38x1.65mm)
pins: 1 VOUT1 (in) "Output Voltage Feedback for Channel 1. An internal resistive divider divides the output voltage down for comparison to the internal reference voltage.", 2 RUN1 (in) "Regulator 1 Enable. Forcing this pin to VIN enables regulator 1, while forcing it to GND causes regulator 1 to shut down. This pin must be driven; do not float.", 3 VIN (power) "Input Power Supply. Must be closely decoupled to GND.", 4 SW1 (power) "Regulator 1 Switch Node Connection to the Inductor. This pin swings from VIN to GND.", 5 GND (power) "Ground. This pin is not connected internally. Connect to PCB ground for optimum shielding.", 6 MODE/SYNC (in) "Combination Mode Selection and Oscillator Synchronization. This pin controls the operation of the device. When tied to VIN or GND, Burst Mode operation or pulse-skipping mode is selected, respectively. Do not float this pin. (See Datasheet)", 7 SW2 (power) "Regulator 2 Switch Node Connection to the Inductor. This pin swings from VIN to GND.", 8 ~{POR} (oc) "Power-On Reset. This common-drain logic output is pulled to GND when the output voltage falls below -8.5% of regulation and goes high after 117ms when both channels are within regulation.", 9 RUN2 (in) "Regulator 2 Enable. Forcing this pin to VIN enables regulator 2, while forcing it to GND causes regulator 2 to shut down. This pin must be driven; do not float.", 10 VFB2 (in) "Output Feedback. Receives the feedback voltage from the external resistive divider across the output. Normal voltage for this pin is 0.6V.", 11 EP (power) "Ground. Connect to the (-) terminal of COUT, and (-) terminal of CIN. Must be connected to PCB ground for electrical contact and rated thermal performance."

## LTC3548EKD-1#PBF
designator U?
Dual Synchronous, Fixed Output 2.25 MHz Step-Down DC/DC Regulator, 10-pin SON (KD-10), -40 to 125 degC, Pb-Free, Tape and Reel; Manufacturer: Linear Technology; PartNumber: LTC3548EKD-1#PBF; Number of Outputs: 2; PackageReference: KD-10; PackageDescription: 10-Pin Plastic UTDFN, Body 3 x 3 mm, Pitch 0.5 mm; Supplier 1: Digi-Key; Supplier Part Number 1: LTC3548EKD-1#PBF-ND; RoHS: TRUE
footprint LT-KD-10_V (SON, 10-Leads, Body 3x3mm, Pitch 0.5mm, Thermal Pad 2.38x1.65mm)
pins: 1 VFB1 (in) "Output Feedback for Channel 1. Receives the feedback voltage from internal resistive divider across the output. Normal voltage for this pin is 0.6V", 2 VOUT1 (in) "Output Voltage Feedback for Channel 1. An internal resistive divider divides the output voltage down for comparison to the internal reference voltage.", 3 VIN (power) "Input Power Supply. Must be closely decoupled to GND.", 4 SW1 (power) "Regulator 1 Switch Node Connection to the Inductor. This pin swings from VIN to GND.", 5 GND (power) "Ground. This pin is not connected internally. Connect to PCB ground for optimum shielding.", 6 RUN2 (in) "Regulator 2 Enable. Forcing this pin to VIN enables regulator 2, while forcing it to GND causes regulator 2 to shut down. This pin must be driven; do not float.", 7 SW2 (power) "Regulator 2 Switch Node Connection to the Inductor. This pin swings from VIN to GND.", 8 RUN1 (in) "Regulator 1 Enable. Forcing this pin to VIN enables regulator 1, while forcing it to GND causes regulator 1 to shut down. This pin must be driven; do not float.", 9 VOUT2 (in) "Output Voltage Feedback Pin for Channel 2. An internal resistive divider divides the output voltage down for comparison to the internal reference voltage.", 10 VFB2 (in) "Output Feedback. Receives the feedback voltage from the external resistive divider across the output. Normal voltage for this pin is 0.6V.", 11 EP (power) "Ground. Connect to the (-) terminal of COUT, and (-) terminal of CIN. Must be connected to PCB ground for electrical contact and rated thermal performance."

## LTC3548EKD-1#TRPBF
designator U?
Dual Synchronous, Fixed Output 2.25 MHz Step-Down DC/DC Regulator, 10-pin SON (KD-10), -40 to 125 degC, Pb-Free, Tape and Reel; Manufacturer: Linear Technology; PartNumber: LTC3548EKD-1#TRPBF; Number of Outputs: 2; PackageReference: KD-10; PackageDescription: 10-Pin Plastic UTDFN, Body 3 x 3 mm, Pitch 0.5 mm; Supplier 1: Digi-Key; Supplier Part Number 1: LTC3548EKD-1#TRPBF-ND; RoHS: TRUE
footprint LT-KD-10_V (SON, 10-Leads, Body 3x3mm, Pitch 0.5mm, Thermal Pad 2.38x1.65mm)
pins: 1 VFB1 (in) "Output Feedback for Channel 1. Receives the feedback voltage from internal resistive divider across the output. Normal voltage for this pin is 0.6V", 2 VOUT1 (in) "Output Voltage Feedback for Channel 1. An internal resistive divider divides the output voltage down for comparison to the internal reference voltage.", 3 VIN (power) "Input Power Supply. Must be closely decoupled to GND.", 4 SW1 (power) "Regulator 1 Switch Node Connection to the Inductor. This pin swings from VIN to GND.", 5 GND (power) "Ground. This pin is not connected internally. Connect to PCB ground for optimum shielding.", 6 RUN2 (in) "Regulator 2 Enable. Forcing this pin to VIN enables regulator 2, while forcing it to GND causes regulator 2 to shut down. This pin must be driven; do not float.", 7 SW2 (power) "Regulator 2 Switch Node Connection to the Inductor. This pin swings from VIN to GND.", 8 RUN1 (in) "Regulator 1 Enable. Forcing this pin to VIN enables regulator 1, while forcing it to GND causes regulator 1 to shut down. This pin must be driven; do not float.", 9 VOUT2 (in) "Output Voltage Feedback Pin for Channel 2. An internal resistive divider divides the output voltage down for comparison to the internal reference voltage.", 10 VFB2 (in) "Output Feedback. Receives the feedback voltage from the external resistive divider across the output. Normal voltage for this pin is 0.6V.", 11 EP (power) "Ground. Connect to the (-) terminal of COUT, and (-) terminal of CIN. Must be connected to PCB ground for electrical contact and rated thermal performance."

## LTC3549EDCB#PBF
designator U?
250 mA Low VIN Buck Regulator, 6-pin SON (DCB-6), -40 to 85 degC, Pb-Free; Manufacturer: Linear Technology; PartNumber: LTC3549EDCB#PBF; Number of Outputs: 1; PackageReference: DCB-6; PackageDescription: 6-Pin Plastic DFN, Body 2 x 3 mm, Pitch 0.5 mm; Supplier 1: Farnell; Supplier Part Number 1: 2308151; RoHS: TRUE; Code_JEDEC: MO-229
footprint LT-DCB-6_V (SON, 6-Leads, Body 3x2mm, Pitch 0.5mm, Thermal Pad 1.65x1.35mm)
pins: 1 VIN (power) "Main Supply Pin. Must be closely decoupled to GND, Pins 2 and 7, with a 4.7uF or greater ceramic capacitor.", 2 GND (power) "N/C. Ground this pin.", 3 SW (power) "Switch Node Connection to Inductor. This pin connects to the drains of the internal main and synchronous power MOSFET switches.", 4 MODE (in) "Mode Select Input. To select pulse-skipping mode, force this pin above 1.1V. Forcing this pin below 0.3V selects Burst Mode operation. Do not leave MODE floating.", 5 RUN (in) "Run Control Input. Forcing this pin above 1.1V enables the part. Forcing this pin below 0.3V shuts down the device. In shutdown, all functions are disabled drawing <1uA supply current. Do not leave RUN floating.", 6 VFB (in) "Feedback Pin. Receives the feedback voltage from an external resistive divider across the output.", 7 GND (power) "Exposed Pad. The Exposed Pad is ground. It must be soldered to PCB ground to provide both electrical contact and optimum thermal performance."
text: EP

## LTC3549EDCB#TRMPBF
designator U?
250 mA Low VIN Buck Regulator, 6-pin SON (DCB-6), -40 to 85 degC, Pb-Free, Mini Tape and Reel; Manufacturer: Linear Technology; PartNumber: LTC3549EDCB#TRMPBF; Number of Outputs: 1; PackageReference: DCB-6; PackageDescription: 6-Pin Plastic DFN, Body 2 x 3 mm, Pitch 0.5 mm; Supplier 1: Digi-Key; Supplier Part Number 1: LTC3549EDCB#TRMPBFTR-ND; RoHS: TRUE; Code_JEDEC: MO-229
footprint LT-DCB-6_V (SON, 6-Leads, Body 3x2mm, Pitch 0.5mm, Thermal Pad 1.65x1.35mm)
pins: 1 VIN (power) "Main Supply Pin. Must be closely decoupled to GND, Pins 2 and 7, with a 4.7uF or greater ceramic capacitor.", 2 GND (power) "N/C. Ground this pin.", 3 SW (power) "Switch Node Connection to Inductor. This pin connects to the drains of the internal main and synchronous power MOSFET switches.", 4 MODE (in) "Mode Select Input. To select pulse-skipping mode, force this pin above 1.1V. Forcing this pin below 0.3V selects Burst Mode operation. Do not leave MODE floating.", 5 RUN (in) "Run Control Input. Forcing this pin above 1.1V enables the part. Forcing this pin below 0.3V shuts down the device. In shutdown, all functions are disabled drawing <1uA supply current. Do not leave RUN floating.", 6 VFB (in) "Feedback Pin. Receives the feedback voltage from an external resistive divider across the output.", 7 GND (power) "Exposed Pad. The Exposed Pad is ground. It must be soldered to PCB ground to provide both electrical contact and optimum thermal performance."
text: EP

## LTC3549EDCB#TRPBF
designator U?
250 mA Low VIN Buck Regulator, 6-pin SON (DCB-6), -40 to 85 degC, Pb-Free, Tape and Reel; Manufacturer: Linear Technology; PartNumber: LTC3549EDCB#TRPBF; Number of Outputs: 1; PackageReference: DCB-6; PackageDescription: 6-Pin Plastic DFN, Body 2 x 3 mm, Pitch 0.5 mm; Supplier 1: Digi-Key; Supplier Part Number 1: LTC3549EDCB#TRPBF-ND; RoHS: TRUE; Code_JEDEC: MO-229
footprint LT-DCB-6_V (SON, 6-Leads, Body 3x2mm, Pitch 0.5mm, Thermal Pad 1.65x1.35mm)
pins: 1 VIN (power) "Main Supply Pin. Must be closely decoupled to GND, Pins 2 and 7, with a 4.7uF or greater ceramic capacitor.", 2 GND (power) "N/C. Ground this pin.", 3 SW (power) "Switch Node Connection to Inductor. This pin connects to the drains of the internal main and synchronous power MOSFET switches.", 4 MODE (in) "Mode Select Input. To select pulse-skipping mode, force this pin above 1.1V. Forcing this pin below 0.3V selects Burst Mode operation. Do not leave MODE floating.", 5 RUN (in) "Run Control Input. Forcing this pin above 1.1V enables the part. Forcing this pin below 0.3V shuts down the device. In shutdown, all functions are disabled drawing <1uA supply current. Do not leave RUN floating.", 6 VFB (in) "Feedback Pin. Receives the feedback voltage from an external resistive divider across the output.", 7 GND (power) "Exposed Pad. The Exposed Pad is ground. It must be soldered to PCB ground to provide both electrical contact and optimum thermal performance."
text: EP

## LTC3560ES6#TR
designator U?
2.25 MHz, 800 mA Synchronous Step-Down Regulator, 6-pin SOT23 (S6-6), -40 to 85 degC, Tape and Reel; Manufacturer: Linear Technology; PartNumber: LTC3560ES6#TR; Number of Outputs: 1; PackageReference: S6-6; PackageDescription: 6-Pin Plastic TSOT-23, Body 2.9 x 1.63 mm, Pitch 0.95 mm; RoHS: FALSE; Code_JEDEC: MO-193
footprint LT-S6-6-TSOT-23_N (SOT23, 6-Leads, Body 2.9x1.75mm, Pitch 0.95mm, IPC Medium Density)
footprint LT-S6-6-TSOT-23_L (SOT23, 6-Leads, Body 2.9x1.75mm, Pitch 0.95mm, IPC High Density)
footprint LT-S6-6-TSOT-23_M (SOT23, 6-Leads, Body 2.9x1.75mm, Pitch 0.95mm, IPC Low Density)
pins: 1 RUN (in) "Run Control Input. Forcing this pin above 1.5V enables the part. Forcing this pin below 0.3V shuts down the device. In shutdown, all functions are disabled drawing <1uA supply current. Do not leave RUN floating.", 2 GND (power) "Ground Pin.", 3 SW (power) "Switch Node Connection to Inductor. This pin connects to the drains of the internal main and synchronous power MOSFET switches.", 4 VIN (power) "Main Supply Pin. Must be closely decoupled to GND, Pin 2, with a 10uF or greater ceramic capacitor.", 5 VFB (in) "Feedback Pin. Receives the feedback voltage from an external resistive divider across the output.", 6 SYNC/MODE (in) "External Clock Synchronization and Mode Select Input. To synchronize with an external clock, apply a clock with a frequency between 1MHz and 3MHz. To select pulse-skipping mode, tie to VIN. Grounding this pin selects Burst (See Datasheet)"

## LTC3560ES6#TRMPBF
designator U?
2.25 MHz, 800 mA Synchronous Step-Down Regulator, 6-pin SOT23 (S6-6), -40 to 85 degC, Pb-Free, Mini Tape and Reel; Manufacturer: Linear Technology; PartNumber: LTC3560ES6#TRMPBF; Number of Outputs: 1; PackageReference: S6-6; PackageDescription: 6-Pin Plastic TSOT-23, Body 2.9 x 1.63 mm, Pitch 0.95 mm; Supplier 1: Digi-Key; Supplier Part Number 1: LTC3560ES6#TRMPBFTR-ND; RoHS: TRUE; Code_JEDEC: MO-193
footprint LT-S6-6-TSOT-23_N (SOT23, 6-Leads, Body 2.9x1.75mm, Pitch 0.95mm, IPC Medium Density)
footprint LT-S6-6-TSOT-23_L (SOT23, 6-Leads, Body 2.9x1.75mm, Pitch 0.95mm, IPC High Density)
footprint LT-S6-6-TSOT-23_M (SOT23, 6-Leads, Body 2.9x1.75mm, Pitch 0.95mm, IPC Low Density)
pins: 1 RUN (in) "Run Control Input. Forcing this pin above 1.5V enables the part. Forcing this pin below 0.3V shuts down the device. In shutdown, all functions are disabled drawing <1uA supply current. Do not leave RUN floating.", 2 GND (power) "Ground Pin.", 3 SW (power) "Switch Node Connection to Inductor. This pin connects to the drains of the internal main and synchronous power MOSFET switches.", 4 VIN (power) "Main Supply Pin. Must be closely decoupled to GND, Pin 2, with a 10uF or greater ceramic capacitor.", 5 VFB (in) "Feedback Pin. Receives the feedback voltage from an external resistive divider across the output.", 6 SYNC/MODE (in) "External Clock Synchronization and Mode Select Input. To synchronize with an external clock, apply a clock with a frequency between 1MHz and 3MHz. To select pulse-skipping mode, tie to VIN. Grounding this pin selects Burst (See Datasheet)"

## LTC3560ES6#TRPBF
designator U?
2.25 MHz, 800 mA Synchronous Step-Down Regulator, 6-pin SOT23 (S6-6), -40 to 85 degC, Pb-Free, Tape and Reel; Manufacturer: Linear Technology; PartNumber: LTC3560ES6#TRPBF; Number of Outputs: 1; PackageReference: S6-6; PackageDescription: 6-Pin Plastic TSOT-23, Body 2.9 x 1.63 mm, Pitch 0.95 mm; Supplier 1: Digi-Key; Supplier Part Number 1: LTC3560ES6#TRPBF-ND; RoHS: TRUE; Code_JEDEC: MO-193
footprint LT-S6-6-TSOT-23_N (SOT23, 6-Leads, Body 2.9x1.75mm, Pitch 0.95mm, IPC Medium Density)
footprint LT-S6-6-TSOT-23_L (SOT23, 6-Leads, Body 2.9x1.75mm, Pitch 0.95mm, IPC High Density)
footprint LT-S6-6-TSOT-23_M (SOT23, 6-Leads, Body 2.9x1.75mm, Pitch 0.95mm, IPC Low Density)
pins: 1 RUN (in) "Run Control Input. Forcing this pin above 1.5V enables the part. Forcing this pin below 0.3V shuts down the device. In shutdown, all functions are disabled drawing <1uA supply current. Do not leave RUN floating.", 2 GND (power) "Ground Pin.", 3 SW (power) "Switch Node Connection to Inductor. This pin connects to the drains of the internal main and synchronous power MOSFET switches.", 4 VIN (power) "Main Supply Pin. Must be closely decoupled to GND, Pin 2, with a 10uF or greater ceramic capacitor.", 5 VFB (in) "Feedback Pin. Receives the feedback voltage from an external resistive divider across the output.", 6 SYNC/MODE (in) "External Clock Synchronization and Mode Select Input. To synchronize with an external clock, apply a clock with a frequency between 1MHz and 3MHz. To select pulse-skipping mode, tie to VIN. Grounding this pin selects Burst (See Datasheet)"

## LTC3560IS6#PBF
designator U?
2.25 MHz, 800 mA Synchronous Step-Down Regulator, 6-pin SOT23 (S6-6), -40 to 125 degC, Pb-Free; Manufacturer: Linear Technology; PartNumber: LTC3560IS6#PBF; Number of Outputs: 1; PackageReference: S6-6; PackageDescription: 6-Pin Plastic TSOT-23, Body 2.9 x 1.63 mm, Pitch 0.95 mm; RoHS: TRUE; Code_JEDEC: MO-193
footprint LT-S6-6-TSOT-23_N (SOT23, 6-Leads, Body 2.9x1.75mm, Pitch 0.95mm, IPC Medium Density)
footprint LT-S6-6-TSOT-23_L (SOT23, 6-Leads, Body 2.9x1.75mm, Pitch 0.95mm, IPC High Density)
footprint LT-S6-6-TSOT-23_M (SOT23, 6-Leads, Body 2.9x1.75mm, Pitch 0.95mm, IPC Low Density)
pins: 1 RUN (in) "Run Control Input. Forcing this pin above 1.5V enables the part. Forcing this pin below 0.3V shuts down the device. In shutdown, all functions are disabled drawing <1uA supply current. Do not leave RUN floating.", 2 GND (power) "Ground Pin.", 3 SW (power) "Switch Node Connection to Inductor. This pin connects to the drains of the internal main and synchronous power MOSFET switches.", 4 VIN (power) "Main Supply Pin. Must be closely decoupled to GND, Pin 2, with a 10uF or greater ceramic capacitor.", 5 VFB (in) "Feedback Pin. Receives the feedback voltage from an external resistive divider across the output.", 6 SYNC/MODE (in) "External Clock Synchronization and Mode Select Input. To synchronize with an external clock, apply a clock with a frequency between 1MHz and 3MHz. To select pulse-skipping mode, tie to VIN. Grounding this pin selects Burst (See Datasheet)"

## LTC3560IS6#TRMPBF
designator U?
2.25 MHz, 800 mA Synchronous Step-Down Regulator, 6-pin SOT23 (S6-6), -40 to 125 degC, Pb-Free, Mini Tape and Reel; Manufacturer: Linear Technology; PartNumber: LTC3560IS6#TRMPBF; Number of Outputs: 1; PackageReference: S6-6; PackageDescription: 6-Pin Plastic TSOT-23, Body 2.9 x 1.63 mm, Pitch 0.95 mm; Supplier 1: Digi-Key; Supplier Part Number 1: LTC3560IS6#TRMPBF-ND; RoHS: TRUE; Code_JEDEC: MO-193
footprint LT-S6-6-TSOT-23_N (SOT23, 6-Leads, Body 2.9x1.75mm, Pitch 0.95mm, IPC Medium Density)
footprint LT-S6-6-TSOT-23_L (SOT23, 6-Leads, Body 2.9x1.75mm, Pitch 0.95mm, IPC High Density)
footprint LT-S6-6-TSOT-23_M (SOT23, 6-Leads, Body 2.9x1.75mm, Pitch 0.95mm, IPC Low Density)
pins: 1 RUN (in) "Run Control Input. Forcing this pin above 1.5V enables the part. Forcing this pin below 0.3V shuts down the device. In shutdown, all functions are disabled drawing <1uA supply current. Do not leave RUN floating.", 2 GND (power) "Ground Pin.", 3 SW (power) "Switch Node Connection to Inductor. This pin connects to the drains of the internal main and synchronous power MOSFET switches.", 4 VIN (power) "Main Supply Pin. Must be closely decoupled to GND, Pin 2, with a 10uF or greater ceramic capacitor.", 5 VFB (in) "Feedback Pin. Receives the feedback voltage from an external resistive divider across the output.", 6 SYNC/MODE (in) "External Clock Synchronization and Mode Select Input. To synchronize with an external clock, apply a clock with a frequency between 1MHz and 3MHz. To select pulse-skipping mode, tie to VIN. Grounding this pin selects Burst (See Datasheet)"